# Altium footprint library IND_LQH43CN100K03L.PcbLib: 1 footprints
Each footprint in its own frame and in the unit in brackets; x right, y up, seen from the top. Pads: shape width x height; smd on the part's side, far side on the other; paste and mask are expansions set on the pad; w line width, h text height; cw(c..) or ccw(c..) is an arc to the next point about the centre after c.
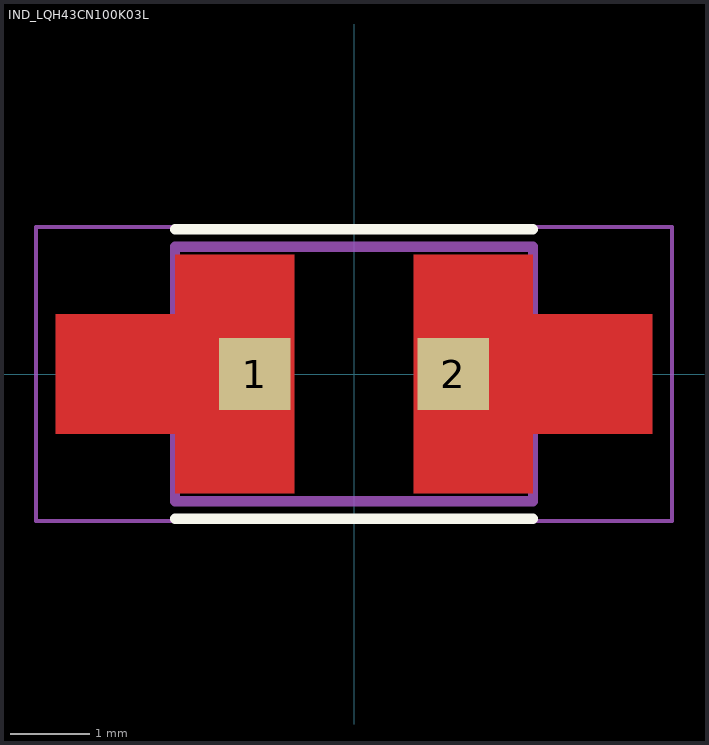
[diagram p0: the footprint, top view; thin cyan lines are the x and y axes]

## IND_LQH43CN100K03L [mm]
height 2.8
pads (2):
  rect 0.9x0.9 smd paste-1 mask+0: 1(-1.25,0) 2(1.25,0)
Top Layer:
  region: -0.75,-1.5 -2.25,-1.5 -2.25,-0.75 -3.75,-0.75 -3.75,0.75 -2.25,0.75 -2.25,1.5 -0.75,1.5
  region: 2.25,0.75 3.75,0.75 3.75,-0.75 2.25,-0.75 2.25,-1.5 0.75,-1.5 0.75,1.5 2.25,1.5
Top Overlay:
  lines w0.127: -2.25,-1.82 2.25,-1.82 ; -2.25,1.82 2.25,1.82
Top Paste:
  region: -0.75,-1.5 -2.25,-1.5 -2.25,-0.75 -3.75,-0.75 -3.75,0.75 -2.25,0.75 -2.25,1.5 -0.75,1.5
  region: 2.25,0.75 3.75,0.75 3.75,-0.75 2.25,-0.75 2.25,-1.5 0.75,-1.5 0.75,1.5 2.25,1.5
Top Solder:
  region: -0.65,-1.6 -2.35,-1.6 -2.35,-0.85 -3.85,-0.85 -3.85,0.85 -2.35,0.85 -2.35,1.6 -0.65,1.6
  region: 2.35,0.85 3.85,0.85 3.85,-0.85 2.35,-0.85 2.35,-1.6 0.65,-1.6 0.65,1.6 2.35,1.6
Mechanical 13:
  lines w0.127: -2.25,-1.6 2.25,-1.6 2.25,1.6 -2.25,1.6 -2.25,-1.6
Mechanical 15:
  lines w0.05: -4,-1.85 4,-1.85 4,1.85 -4,1.85 -4,-1.85
3D body "step_temp.STEP": height 2.8, standoff 0, extent -2.25,-1.6 2.25,1.6